# Altium schematic symbol library 0805YC106KAT2A.SchLib: 1 symbol
Pins are listed as number, name and electrical type; pins without a type are passive.

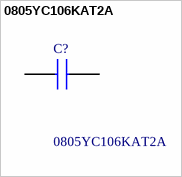
[diagram p0: symbol 0805YC106KAT2A]

## 0805YC106KAT2A
designator C?
Multilayer Ceramic Capacitors MLCC - SMD/SMT 16V 10uF X7R 0805 10%; Manufacturer_Name: Kyocera AVX; Geometry.Height: 0.94mm; Mouser Part Number: 581-0805YC106KAT2A; Mouser Price/Stock: https://www.mouser.co.uk/ProductDetail/KYOCERA-AVX/0805YC106KAT2A?qs=3HJ2avRr9PKwMzeRMZhF2g%3D%3D; Manufacturer_Part_Number: 0805YC106KAT2A; Datasheet Link: https://www.mouser.fr/datasheet/2/40/AVX_X7RDielectric_777024-1853642.pdf
footprint CAPC2012X94N
pins: 1, 2